# EAGLE library part A3946 (library Gyros)
Half-Bridge Power MOSFET Controller Integrated charge pump allows supply to drop to 7V. Overvoltage and undervoltage protection, drives external FETs. Temp range -40 to 135 C
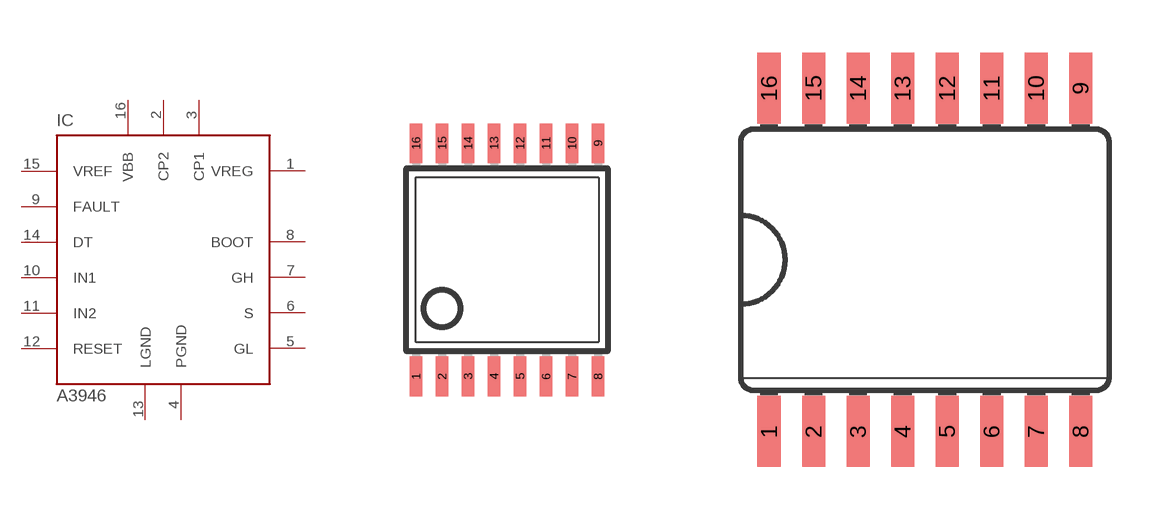
[diagram p14: symbol with the pads of TSSOP16; footprints TSSOP16, SO16L]

Designator prefix IC

## A3946KLP  [TSSOP16]
1  VREG  out
2  CP2
3  CP1
4  PGND  pwr
5  GL  out
6  S  out
7  GH  out
8  BOOT  out
9  FAULT  out
10  IN1  in
11  IN2  in
12  RESET  in
13  LGND  pwr
14  DT  in
15  VREF  out
16  VBB  pwr

## A3946KLB  [SO16L]
Pads as for TSSOP16

## Footprint TSSOP16 (pad centres in mm)
16-pin Thin Shrink Small Outline Package
smd 0.305 x 0.991: 1 -2.275,-2.918; 2 -1.625,-2.918; 3 -0.975,-2.918; 4 -0.325,-2.918; 5 0.325,-2.918; 6 0.975,-2.918; 7 1.625,-2.918; 8 2.275,-2.918; 9 2.275,2.918; 10 1.625,2.918; 11 0.975,2.918; 12 0.325,2.918; 13 -0.325,2.918; 14 -0.975,2.918; 15 -1.625,2.918; 16 -2.275,2.918

## Footprint SO16L (pad centres in mm)
16-pin Small Outline Package
smd 0.66 x 2.032: 1 -4.445,-4.902; 2 -3.175,-4.902; 3 -1.905,-4.902; 4 -0.635,-4.902; 5 0.635,-4.902; 6 1.905,-4.902; 7 3.175,-4.902; 8 4.445,-4.902; 9 4.445,4.902; 10 3.175,4.902; 11 1.905,4.902; 12 0.635,4.902; 13 -0.635,4.902; 14 -1.905,4.902; 15 -3.175,4.902; 16 -4.445,4.902